# Altium schematic symbol library lab_5_schElements.SchLib: 8 symbols
Pins are listed as number, name and electrical type; pins without a type are passive.

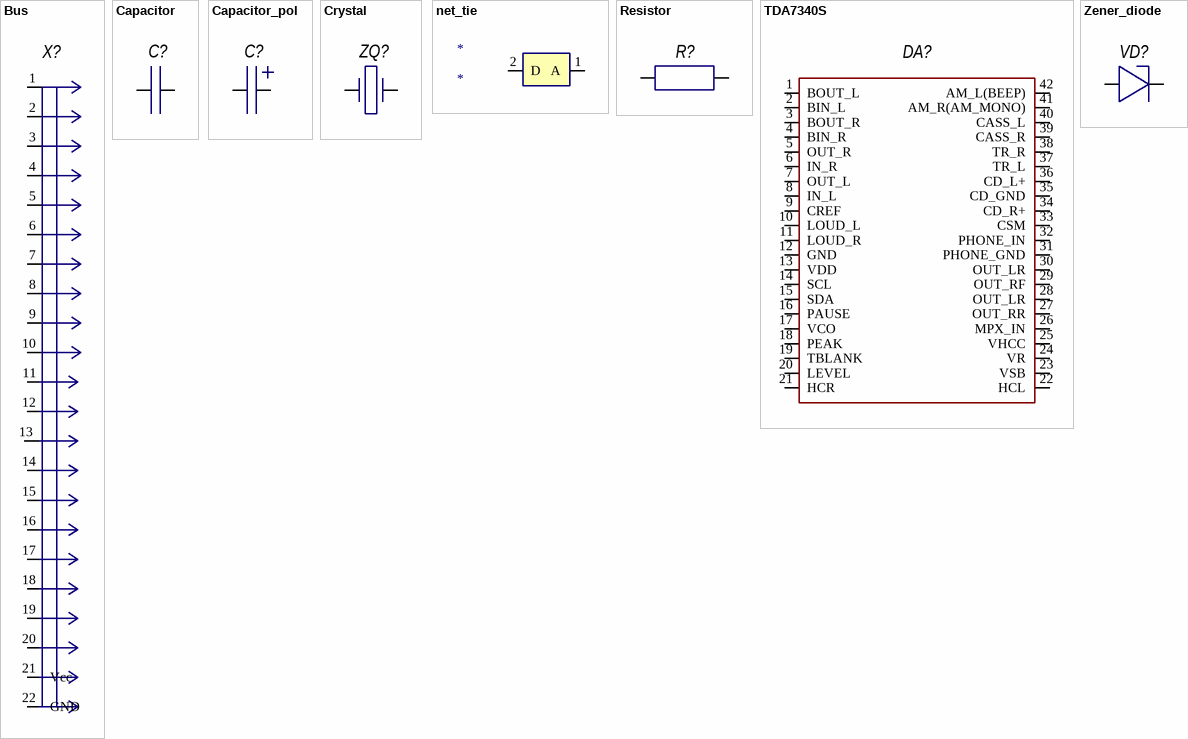
[diagram p0: symbols Bus to Zener_diode]

## Bus
designator X?  (value not drawn)
footprint Bus
pins: 1, 2, 3, 4, 5, 6, 7, 8, 9, 10, 11, 12, 13, 14, 15, 16, 17, 18, 19, 20, 21 Vcc, 22 GND

## Capacitor
designator C?  (value not drawn)
footprint Cap_tantal_D
pins: 1, 2

## Capacitor_pol
designator C?  (value not drawn)
footprint cap_electro_13
pins: 1, 2

## Crystal
designator ZQ?  (value not drawn)
footprint crystal
pins: 1, 2

## net_tie
designator *
pins: 1 A, 2 D

## Resistor
designator R?  (value not drawn)
footprint R_1206
pins: 1, 2

## TDA7340S
designator DA?  (value not drawn)
footprint TDA7340S (SOP, 42-Leads, Body 36,83x13,59mm, Pitch 1,78mm, IPC Medium Density)
pins: 1 BOUT_L, 2 BIN_L, 3 BOUT_R, 4 BIN_R, 5 OUT_R, 6 IN_R, 7 OUT_L, 8 IN_L, 9 CREF, 10 LOUD_L, 11 LOUD_R, 12 GND, 13 VDD, 14 SCL, 15 SDA, 16 PAUSE, 17 VCO, 18 PEAK, 19 TBLANK, 20 LEVEL, 21 HCR, 22 HCL, 23 VSB, 24 VR, 25 VHCC, 26 MPX_IN, 27 OUT_RR, 28 OUT_LR, 29 OUT_RF, 30 OUT_LR, 31 PHONE_GND, 32 PHONE_IN, 33 CSM, 34 CD_R+, 35 CD_GND, 36 CD_L+, 37 TR_L, 38 TR_R, 39 CASS_R, 40 CASS_L, 41 AM_R(AM_MONO), 42 AM_L(BEEP)

## Zener_diode
designator VD?  (value not drawn)
footprint zener_diode
pins: 1, 2